# Altium schematic symbol library LMV431BCM5.SchLib: 1 symbol
Pins are listed as number, name and electrical type; pins without a type are passive.

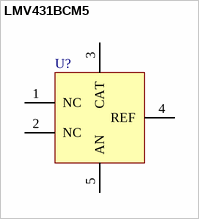
[diagram p0: symbol LMV431BCM5]

## LMV431BCM5
designator U?
pins: 1 NC, 2 NC, 3 CAT, 4 REF, 5 AN